# Altium footprint library SOT230P700X180-4N.PcbLib: 1 footprints
Each footprint in its own frame and in the unit in brackets; x right, y up, seen from the top. Pads: shape width x height; smd on the part's side, far side on the other; paste and mask are expansions set on the pad; w line width, h text height; cw(c..) or ccw(c..) is an arc to the next point about the centre after c.
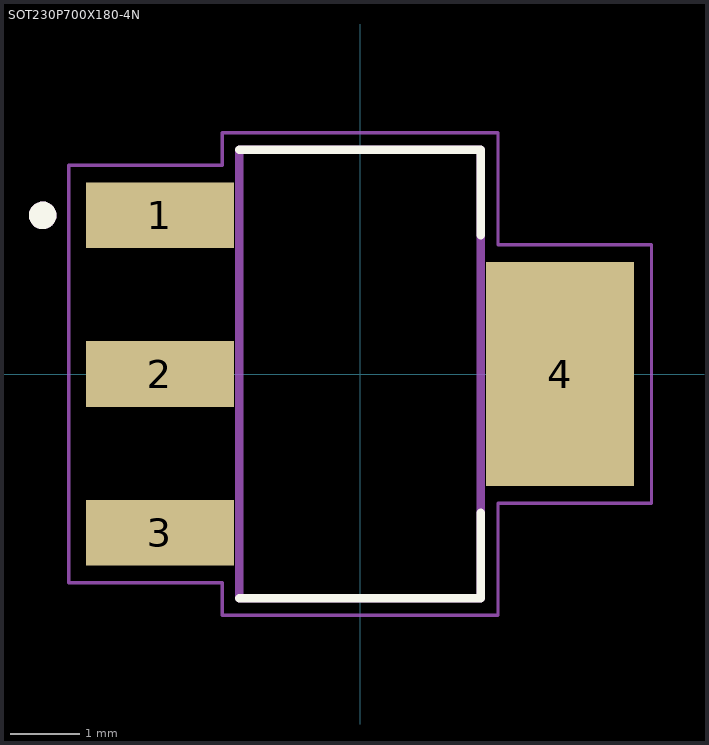
[diagram p0: the footprint, top view; thin cyan lines are the x and y axes]

## SOT230P700X180-4N [mm]
pads (4):
  rect 2.15x0.95 smd: 1(-2.9,2.3) 2(-2.9,0) 3(-2.9,-2.3)
  rect 2.15x3.25 smd: 4(2.9,0)
Top Overlay:
  circle w0.2: c-4.6,2.3 r0.1
  lines w0.127: -1.75,-3.25 1.75,-3.25 1.75,-2.01 ; -1.75,3.25 1.75,3.25 1.75,2.01
Mechanical 13:
  circle w0.2: c-4.6,2.3 r0.1
  lines w0.127: -1.75,-3.25 -1.75,3.25 1.75,3.25 1.75,-3.25 -1.75,-3.25
Mechanical 15:
  lines w0.05: -4.225,-3.025 -4.225,3.025 -2,3.025 -2,3.5 2,3.5 2,1.875 4.225,1.875 4.225,-1.875 2,-1.875 2,-3.5 -2,-3.5 -2,-3.025 -4.225,-3.025
3D body "step_temp.STEP": height 1.8, standoff 0, extent -3.499,-3.25 3.499,3.25